# EAGLE library part RELAY_G5V1 (library TD-MySensors)
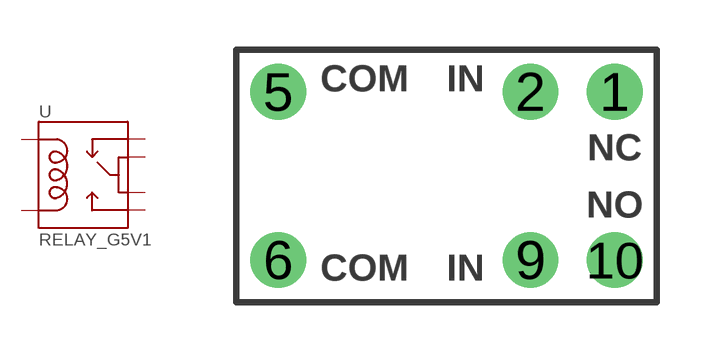
[diagram p13: symbol with the pads of RELAY-G5V; footprint RELAY-G5V]

Designator prefix -

## RELAY_G5V1  [RELAY-G5V]
1  1
2  2
5  5
6  6
9  9
10  10

## Footprint RELAY-G5V (pad centres in mm)
G5Q SPDT Relay (SparkFun SKU: COM-00100). Footprint should also work with SPST-NO relay.
drill 1.016 pad 1.676: 1 5.08,2.54; 2 2.54,2.54; 5 -5.08,2.54; 6 -5.08,-2.54; 9 2.54,-2.54; 10 5.08,-2.54